# Altium footprint library XTAL.PcbLib: 1 footprints
Each footprint in its own frame and in the unit in brackets; x right, y up, seen from the top. Pads: shape width x height; smd on the part's side, far side on the other; paste and mask are expansions set on the pad; w line width, h text height; cw(c..) or ccw(c..) is an arc to the next point about the centre after c.
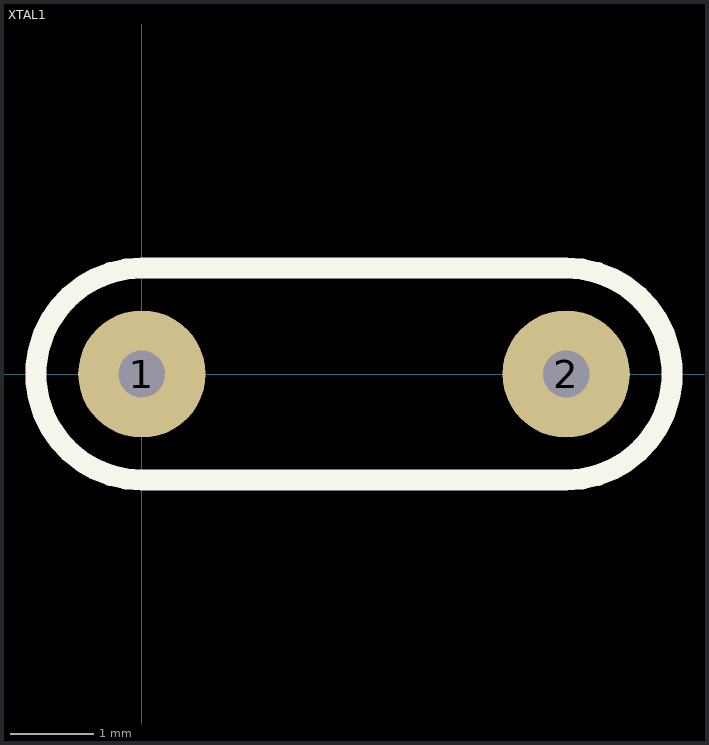
[diagram p0: the footprint, top view; thin cyan lines are the x and y axes]

## XTAL1 [mil]
pads (2):
  round 60 hole 22: 1(0,0) 2(200,0)
Top Overlay:
  lines w10: 0,-50 cw(c0,0) 0,50 200,50 cw(c200,0) 200,-50 0,-50
3D body: height 100, standoff 0, extent 0,-50 205,50
3D body: height 100, standoff 0, extent 150.4,-49.9 250,49.9
3D body: height 100, standoff 0, extent -49.6,-49.9 50,49.9